# Altium footprint library EISI.PcbLib: 695 footprints (part 22 of 44)
Each footprint in its own frame and in the unit in brackets; x right, y up, seen from the top. Pads: shape width x height; smd on the part's side, far side on the other; paste and mask are expansions set on the pad; w line width, h text height; cw(c..) or ccw(c..) is an arc to the next point about the centre after c.
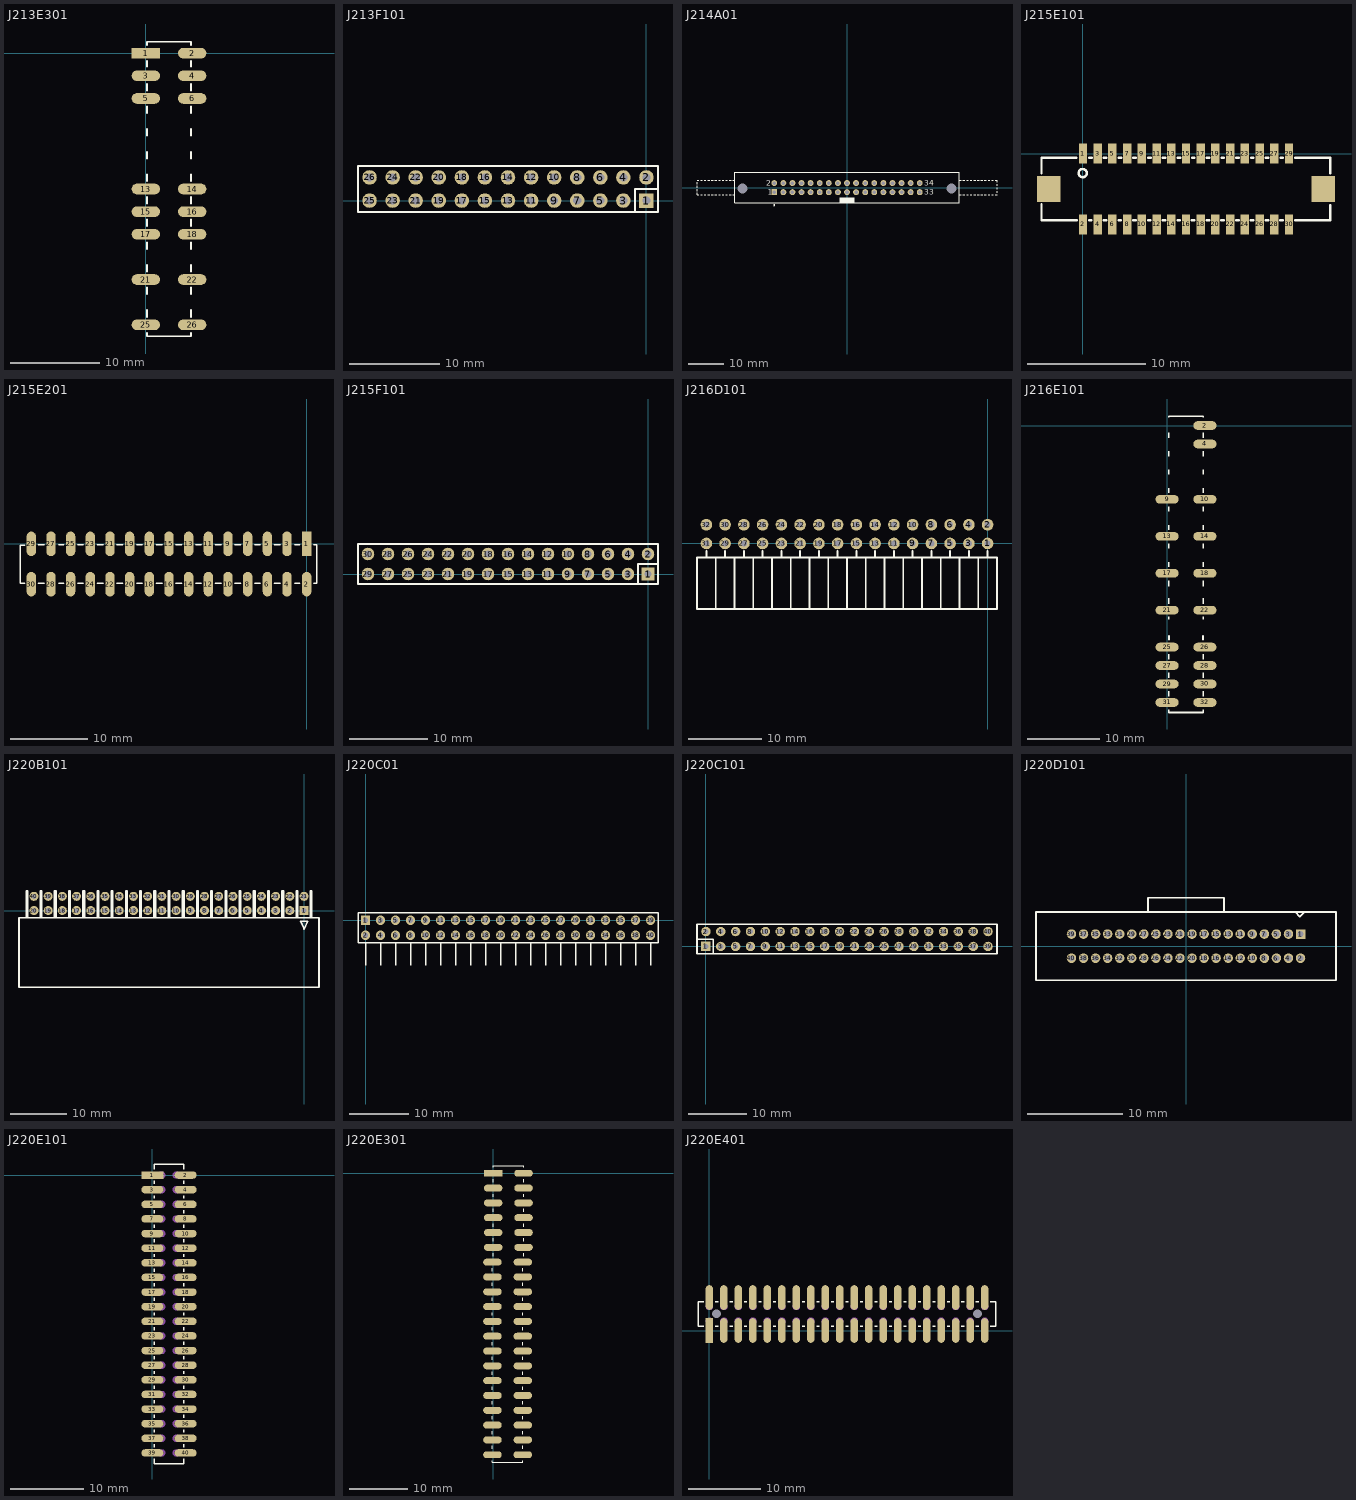
[diagram p21: the footprints below, top view; thin cyan lines are the x and y axes]

## J213E301 [mil]
pads (16):
  rect 125x47 smd: 1(0,0)
  oval 125x47 smd: 2(205,0) 3(0,-100) 4(205,-100) 5(0,-200) 6(205,-200) 13(0,-600) 14(205,-600) 15(0,-700) 16(205,-700) 17(0,-800) 18(205,-800) 21(0,-1000) 22(205,-1000) 25(0,-1200) 26(205,-1200)
TopOverlay:
  lines w7.87: 5,-1235 5,-1250 200,-1250 200,-1235 ; 5,-1165 5,-1135 ; 5,-1065 5,-1035 ; 5,-965 5,-935 ; 5,-865 5,-835 ; 5,-765 5,-735 ; 5,-665 5,-635 ; 5,-565 5,-535 ; 5,-465 5,-435 ; 5,-365 5,-335 ; 5,-265 5,-235 ; 5,-165 5,-135 ; 5,-60 5,-35 ; 5,35 5,50 200,50 200,35 ; 200,-1165 200,-1135 ; 200,-1065 200,-1035 ; 200,-965 200,-935 ; 200,-865 200,-835 ; 200,-765 200,-735 ; 200,-665 200,-635 ; 200,-565 200,-535 ; 200,-465 200,-435 ; 200,-365 200,-335 ; 200,-265 200,-235 ; 200,-165 200,-135 ; 200,-60 200,-35

## J213F101 [mm]
pads (26):
  rect 1.6x1.6 hole 0.9: 1(0,0)
  round 1.6 hole 0.9: 2(0,2.54) 3(-2.54,0) 4(-2.54,2.54) 5(-5.08,0) 6(-5.08,2.54) 7(-7.62,0) 8(-7.62,2.54) 9(-10.16,0) 10(-10.16,2.54) 11(-12.7,0) 12(-12.7,2.54) 13(-15.24,0) 14(-15.24,2.54) 15(-17.78,0) 16(-17.78,2.54) 17(-20.32,0) 18(-20.32,2.54) 19(-22.86,0) 20(-22.86,2.54) 21(-25.4,0) 22(-25.4,2.54) 23(-27.94,0) 24(-27.94,2.54) 25(-30.48,0) 26(-30.48,2.54)
TopOverlay:
  lines w0.254: -1.27,-1.27 -1.27,1.27 1.27,1.27 ; -31.75,-1.27 -31.75,3.81 1.27,3.81 1.27,-1.27 -31.75,-1.27

## J214A01 [mm] "Connector header 2x17 Vertical Pitch Body 62.80 x 8.5 x 25.75 mm (LxWxH), Locking levers"
height 25.75
pads (36):
  rect 1.65x1.65 hole 1: 1(-20.32,-1.27)
  round 1.65 hole 1: 2(-20.32,1.27) 3(-17.78,-1.27) 4(-17.78,1.27) 5(-15.24,-1.27) 6(-15.24,1.27) 7(-12.7,-1.27) 8(-12.7,1.27) 9(-10.16,-1.27) 10(-10.16,1.27) 11(-7.62,-1.27) 12(-7.62,1.27) 13(-5.08,-1.27) 14(-5.08,1.27) 15(-2.54,-1.27) 16(-2.54,1.27) 17(0,-1.27) 18(0,1.27) 19(2.54,-1.27) 20(2.54,1.27) 21(5.08,-1.27) 22(5.08,1.27) 23(7.62,-1.27) 24(7.62,1.27) 25(10.16,-1.27) 26(10.16,1.27) 27(12.7,-1.27) 28(12.7,1.27) 29(15.24,-1.27) 30(15.24,1.27) 31(17.78,-1.27) 32(17.78,1.27) 33(20.32,-1.27) 34(20.32,1.27)
  round 2.5 hole 2.8 unplated: MH1(-29.21,-0.25) MH2(29.21,-0.25)
TopOverlay:
  circle w0.25: c-20.32,-4.9 r0.125
  rectangle: -2.05,-4.25 2.05,-2.7
  lines w0.2: -41.9,-1 -41.9,-0.5 ; -41.9,0 -41.9,0.5 ; -41.9,1 -41.9,1.5 ; -41.9,2 -41.39,2 ; -41.89,-1.5 -41.9,-2 -41.39,-2 ; -40.89,-2 -40.39,-2 ; -40.89,2 -40.39,2 ; -39.89,-2 -39.39,-2 ; -39.89,2 -39.39,2 ; -38.89,-2 -38.39,-2 ; -38.89,2 -38.39,2 ; -37.89,-2 -37.39,-2 ; -37.89,2 -37.39,2 ; -36.89,-2 -36.39,-2 ; -36.89,2 -36.39,2 ; -35.89,-2 -35.39,-2 ; -35.89,2 -35.39,2 ; -34.89,-2 -34.39,-2 ; -34.89,2 -34.39,2 ; -33.89,-2 -33.39,-2 ; -33.89,2 -33.39,2 ; -32.89,-2 -32.39,-2 ; -32.89,2 -32.39,2 ; -31.89,-2 -31.4,-2 ; -31.89,2 -31.4,2 ; 31.4,-2 31.9,-2 ; 31.4,2 31.9,2 ; 32.4,-2 32.9,-2 ; 32.4,2 32.9,2 ; 33.4,-2 33.9,-2 ; 33.4,2 33.9,2 ; 34.4,-2 34.9,-2 ; 34.4,2 34.9,2 ; 35.4,-2 35.9,-2 ; 35.4,2 35.9,2 ; 36.4,-2 36.9,-2 ; 36.4,2 36.9,2 ; 37.4,-2 37.9,-2 ; 37.4,2 37.9,2 ; 38.4,-2 38.9,-2 ; 38.4,2 38.9,2 ; 39.4,-2 39.9,-2 ; 39.4,2 39.9,2 ; 40.4,-2 40.9,-2 ; 40.4,2 40.9,2 ; 41.4,-2 41.9,-2 ; 41.4,2 41.9,2 41.9,1.5 ; 41.9,-1.5 41.9,-1 ; 41.9,-0.5 41.9,0 ; 41.9,0.5 41.9,1 ; -31.4,-4.25 -31.4,4.25 31.4,4.25 31.4,-4.25 -31.4,-4.25
  text "2" at -22.6,0.52 h1.5
  text "1" at -22.1,-2.02 h1.5
  text "34" at 21.6,0.52 h1.5
  text "33" at 21.6,-2.02 h1.5

## J215E101 [mil]
pads (32):
  rect 28x67 smd: 1(0,0) 2(0,-236.22) 3(49.21,0) 4(49.21,-236.22) 5(98.43,0) 6(98.43,-236.22) 7(147.64,0) 8(147.64,-236.22) 9(196.85,0) 10(196.85,-236.22) 11(246.06,0) 12(246.06,-236.22) 13(295.28,0) 14(295.28,-236.22) 15(344.49,0) 16(344.49,-236.22) 17(393.7,0) 18(393.7,-236.22) 19(442.91,0) 20(442.91,-236.22) 21(492.13,0) 22(492.13,-236.22) 23(541.34,0) 24(541.34,-236.22) 25(590.55,0) 26(590.55,-236.22) 27(639.76,0) 28(639.76,-236.22) 29(688.98,0) 30(688.98,-236.22)
  rect 78x86 smd: ""(-114.17,-118.11) ""(803.15,-118.11)
TopOverlay:
  circle w8: c-0.98,-64.96 r13.78
  lines w7.87: -138.78,-168.31 -138.78,-222.44 -20.67,-222.44 ; -138.78,-65.94 -138.78,-13.78 -22.64,-13.78 ; 20.67,-222.44 28.54,-222.44 ; 20.67,-13.78 29.53,-13.78 ; 68.9,-222.44 77.76,-222.44 ; 69.88,-13.78 77.76,-13.78 ; 119.09,-222.44 126.97,-222.44 ; 119.09,-13.78 127.95,-13.78 ; 167.32,-222.44 176.18,-222.44 ; 168.31,-13.78 176.18,-13.78 ; 217.52,-222.44 225.39,-222.44 ; 217.52,-13.78 226.38,-13.78 ; 265.75,-222.44 274.61,-222.44 ; 266.73,-13.78 274.61,-13.78 ; 315.94,-222.44 323.82,-222.44 ; 315.94,-13.78 324.8,-13.78 ; 364.17,-222.44 373.03,-222.44 ; 365.16,-13.78 373.03,-13.78 ; 414.37,-222.44 422.24,-222.44 ; 414.37,-13.78 423.23,-13.78 ; 462.6,-222.44 471.46,-222.44 ; 463.58,-13.78 471.46,-13.78 ; 512.8,-222.44 520.67,-222.44 ; 512.8,-13.78 521.65,-13.78 ; 561.02,-222.44 569.88,-222.44 ; 562.01,-13.78 569.88,-13.78 ; 611.22,-222.44 619.09,-222.44 ; 611.22,-13.78 620.08,-13.78 ; 659.45,-222.44 668.31,-222.44 ; 660.43,-13.78 668.31,-13.78 ; 709.65,-222.44 826.77,-222.44 826.77,-172.24 ; 709.65,-13.78 826.77,-13.78 826.77,-65.94

## J215E201 [mil] "Connecteur 2x15 SMD pas 2.54mm"
pads (30):
  rect 47x125 smd: 1(0,0)
  oval 47x125 smd: 2(0,-205) 3(-100,0) 4(-100,-205) 5(-200,0) 6(-200,-205) 7(-300,0) 8(-300,-205) 9(-400,0) 10(-400,-205) 11(-500,0) 12(-500,-205) 13(-600,0) 14(-600,-205) 15(-700,0) 16(-700,-205) 17(-800,0) 18(-800,-205) 19(-900,0) 20(-900,-205) 21(-1000,0) 22(-1000,-205) 23(-1100,0) 24(-1100,-205) 25(-1200,0) 26(-1200,-205) 27(-1300,0) 28(-1300,-205) 29(-1400,0) 30(-1400,-205)
TopOverlay:
  lines w7.87: -1433.07,-200.79 -1456.69,-200.79 -1456.69,-7.87 -1433.07,-7.87 ; -1365,-200 -1335,-200 ; -1365,-5 -1335,-5 ; -1260,-200 -1235,-200 ; -1260,-5 -1235,-5 ; -1165,-200 -1135,-200 ; -1165,-5 -1135,-5 ; -1065,-200 -1035,-200 ; -1065,-5 -1035,-5 ; -965,-200 -935,-200 ; -965,-5 -935,-5 ; -865,-200 -835,-200 ; -865,-5 -835,-5 ; -765,-200 -735,-200 ; -765,-5 -735,-5 ; -665,-200 -635,-200 ; -665,-5 -635,-5 ; -565,-200 -535,-200 ; -565,-5 -535,-5 ; -465,-200 -435,-200 ; -465,-5 -435,-5 ; -365,-200 -335,-200 ; -365,-5 -335,-5 ; -265,-200 -235,-200 ; -265,-5 -235,-5 ; -165,-200 -135,-200 ; -165,-5 -135,-5 ; -60,-200 -35,-200 ; -60,-5 -35,-5 ; 35,-200 50,-200 50,-5 35,-5

## J215F101 [mm]
pads (30):
  rect 1.6x1.6 hole 0.9: 1(0,0)
  round 1.6 hole 0.9: 2(0,2.54) 3(-2.54,0) 4(-2.54,2.54) 5(-5.08,0) 6(-5.08,2.54) 7(-7.62,0) 8(-7.62,2.54) 9(-10.16,0) 10(-10.16,2.54) 11(-12.7,0) 12(-12.7,2.54) 13(-15.24,0) 14(-15.24,2.54) 15(-17.78,0) 16(-17.78,2.54) 17(-20.32,0) 18(-20.32,2.54) 19(-22.86,0) 20(-22.86,2.54) 21(-25.4,0) 22(-25.4,2.54) 23(-27.94,0) 24(-27.94,2.54) 25(-30.48,0) 26(-30.48,2.54) 27(-33.02,0) 28(-33.02,2.54) 29(-35.56,0) 30(-35.56,2.54)
TopOverlay:
  lines w0.254: -1.27,-1.27 -1.27,1.27 1.27,1.27 ; -36.83,-1.27 1.27,-1.27 1.27,3.81 -36.83,3.81 -36.83,-1.27

## J216D101 [mil]
pads (32):
  round 62 hole 32: 1(0,0) 2(0,100) 3(-100,0) 4(-100,100) 5(-200,0) 6(-200,100) 7(-300,0) 8(-300,100) 9(-400,0) 10(-400,100) 11(-500,0) 12(-500,100) 13(-600,0) 14(-600,100) 15(-700,0) 16(-700,100) 17(-800,0) 18(-800,100) 19(-900,0) 20(-900,100) 21(-1000,0) 22(-1000,100) 23(-1100,0) 24(-1100,100) 25(-1200,0) 26(-1200,100) 27(-1300,0) 28(-1300,100) 29(-1400,0) 30(-1400,100) 31(-1500,0) 32(-1500,100)
TopOverlay:
  lines w10: -1500,-75 -1500,-40 ; -1400,-75 -1400,-40 ; -1300,-75 -1300,-40 ; -1200,-75 -1200,-40 ; -1100,-75 -1100,-40 ; -1000,-75 -1000,-40 ; -900,-75 -900,-40 ; -800,-75 -800,-40 ; -700,-75 -700,-40 ; -600,-75 -600,-40 ; -545,-75 -1550,-75 ; -500,-75 -500,-40 ; -400,-75 -400,-40 ; -300,-75 -300,-40 ; -200,-75 -200,-40 ; -150,-350 -150,-75 ; -100,-75 -100,-40 ; -50,-350 -50,-75 ; 0,-75 0,-40 ; -1550,-350 -1550,-75 ; -1550,-350 -1550,-75 ; -1550,-350 -550,-350 ; -550,-350 -550,-75 ; -550,-350 -250,-350 ; -550,-350 -550,-75 ; -550,-75 -250,-75 ; -250,-350 50,-350 50,-75 -250,-75 ; -250,-350 -250,-75 ; -250,-350 -250,-75 ; -1450,-350 -1450,-75 -1450,-350 ; -1350,-350 -1350,-75 -1350,-350 ; -1250,-350 -1250,-75 -1250,-350 ; -1150,-350 -1150,-75 -1150,-350 ; -1050,-350 -1050,-75 -1050,-350 ; -950,-350 -950,-75 -950,-350 ; -850,-350 -850,-75 -850,-350 ; -750,-350 -750,-75 -750,-350 ; -650,-350 -650,-75 -650,-350 ; -450,-350 -450,-75 -450,-350 ; -350,-350 -350,-75 -350,-350

## J216E101 [mil]
pads (18):
  oval 125x47 smd: 2(205,0) 4(205,-100) 9(0,-400) 10(205,-400) 13(0,-600) 14(205,-600) 17(0,-800) 18(205,-800) 21(0,-1000) 22(205,-1000) 25(0,-1200) 26(205,-1200) 27(0,-1300) 28(205,-1300) 29(0,-1400) 30(205,-1400) 31(0,-1500) 32(205,-1500)
TopOverlay:
  lines w7.87: 10,-1555 10,-1540 ; 10,-1465 10,-1440 ; 10,-1365 10,-1340 ; 10,-1265 10,-1240 ; 10,-1050 10,-1035 ; 10,-965 10,-935 ; 10,-870 10,-840 ; 10,-765 10,-740 ; 10,-665 10,-640 ; 10,-565 10,-540 ; 10,-365 10,-340 ; 10,-265 10,-240 ; 10,-65 10,-40 ; 10,45 10,50 195,50 195,45 ; 195,-1555 195,-1540 ; 195,-1465 195,-1440 ; 195,-1365 195,-1340 ; 195,-1265 195,-1240 ; 195,-1050 195,-1035 ; 195,-965 195,-935 ; 195,-870 195,-840 ; 195,-765 195,-740 ; 195,-665 195,-640 ; 195,-565 195,-540 ; 195,-365 195,-340 ; 195,-265 195,-240 ; 195,-65 195,-40 ; 10,-465 10,-440 10,-465 ; 10,-165 10,-140 10,-165 ; 195,-465 195,-440 195,-465 ; 195,-165 195,-140 195,-165
  lines w10: 10,-1555 195,-1555 ; 10,-1160 10,-1140 ; 195,-1160 195,-1140

## J217A01 [mm] "Connecteur header cable plat droit 2x17 avec clip"

## J220B101 [mm]
pads (40):
  rect 1.6x1.6 hole 0.9: 1(0,0)
  round 1.6 hole 0.9: 2(-2.54,0) 3(-5.08,0) 4(-7.62,0) 5(-10.16,0) 6(-12.7,0) 7(-15.24,0) 8(-17.78,0) 9(-20.32,0) 10(-22.86,0) 11(-25.4,0) 12(-27.94,0) 13(-30.48,0) 14(-33.02,0) 15(-35.56,0) 16(-38.1,0) 17(-40.64,0) 18(-43.18,0) 19(-45.72,0) 20(-48.26,0) 21(0,2.54) 22(-2.54,2.54) 23(-5.08,2.54) 24(-7.62,2.54) 25(-10.16,2.54) 26(-12.7,2.54) 27(-15.24,2.54) 28(-17.78,2.54) 29(-20.32,2.54) 30(-22.86,2.54) 31(-25.4,2.54) 32(-27.94,2.54) 33(-30.48,2.54) 34(-33.02,2.54) 35(-35.56,2.54) 36(-38.1,2.54) 37(-40.64,2.54) 38(-43.18,2.54) 39(-45.72,2.54) 40(-48.26,2.54)
TopOverlay:
  lines w0.305: -49.657,-1.27 -49.657,3.556 -49.403,3.556 -49.403,-1.27 ; -47.117,-1.27 -47.117,3.556 -46.863,3.556 -46.863,-1.27 ; -44.577,-1.27 -44.577,3.556 -44.323,3.556 -44.323,-1.27 ; -42.037,-1.27 -42.037,3.556 -41.783,3.556 -41.783,-1.27 ; -39.497,-1.27 -39.497,3.556 -39.243,3.556 -39.243,-1.27 ; -36.957,-1.27 -36.957,3.556 -36.703,3.556 -36.703,-1.27 ; -34.417,-1.27 -34.417,3.556 -34.163,3.556 -34.163,-1.27 ; -31.877,-1.27 -31.877,3.556 -31.623,3.556 -31.623,-1.27 ; -29.337,-1.27 -29.337,3.556 -29.083,3.556 -29.083,-1.27 ; -26.797,-1.27 -26.797,3.556 -26.543,3.556 -26.543,-1.27 ; -24.257,-1.27 -24.257,3.556 -24.003,3.556 -24.003,-1.27 ; -21.717,-1.27 -21.717,3.556 -21.463,3.556 -21.463,-1.27 ; -19.177,-1.27 -19.177,3.556 -18.923,3.556 -18.923,-1.27 ; -16.637,-1.27 -16.637,3.556 -16.383,3.556 -16.383,-1.27 ; -14.097,-1.27 -14.097,3.556 -13.843,3.556 -13.843,-1.27 ; -11.557,-1.27 -11.557,3.556 -11.303,3.556 -11.303,-1.27 ; -9.017,-1.27 -9.017,3.556 -8.763,3.556 -8.763,-1.27 ; -6.477,-1.27 -6.477,3.556 -6.223,3.556 -6.223,-1.27 ; -3.937,-1.27 -3.937,3.556 -3.683,3.556 -3.683,-1.27 ; -1.397,-1.27 -1.397,3.556 -1.143,3.556 -1.143,-1.27 ; 1.143,-1.27 1.143,3.556 1.397,3.556 1.397,-1.27 ; -50.927,-13.716 -50.927,-1.27 2.667,-1.27 2.667,-13.716 -50.927,-13.716 ; -0.635,-1.905 0.635,-1.905 0,-3.302 -0.635,-1.905

## J220C01 [mm] "Connecteur barttte 2x20 coudé"
pads (40):
  rect 1.6x1.6 hole 0.9: 1(0,0)
  round 1.6 hole 0.9: 2(0,-2.54) 3(2.54,0) 4(2.54,-2.54) 5(5.08,0) 6(5.08,-2.54) 7(7.62,0) 8(7.62,-2.54) 9(10.16,0) 10(10.16,-2.54) 11(12.7,0) 12(12.7,-2.54) 13(15.24,0) 14(15.24,-2.54) 15(17.78,0) 16(17.78,-2.54) 17(20.32,0) 18(20.32,-2.54) 19(22.86,0) 20(22.86,-2.54) 21(25.4,0) 22(25.4,-2.54) 23(27.94,0) 24(27.94,-2.54) 25(30.48,0) 26(30.48,-2.54) 27(33.02,0) 28(33.02,-2.54) 29(35.56,0) 30(35.56,-2.54) 31(38.1,0) 32(38.1,-2.54) 33(40.64,0) 34(40.64,-2.54) 35(43.18,0) 36(43.18,-2.54) 37(45.72,0) 38(45.72,-2.54) 39(48.26,0) 40(48.26,-2.54)
TopOverlay:
  lines w0.25: 0,-7.62 0,-3.81 ; 2.54,-7.62 2.54,-3.81 ; 5.08,-7.62 5.08,-3.81 ; 7.62,-7.62 7.62,-3.81 ; 10.16,-7.62 10.16,-3.81 ; 12.7,-7.62 12.7,-3.81 ; 15.24,-7.62 15.24,-3.81 ; 17.78,-7.62 17.78,-3.81 ; 20.32,-7.62 20.32,-3.81 ; 22.86,-7.62 22.86,-3.81 ; 25.4,-7.62 25.4,-3.81 ; 27.94,-7.62 27.94,-3.81 ; 30.48,-7.62 30.48,-3.81 ; 33.02,-7.62 33.02,-3.81 ; 35.56,-7.62 35.56,-3.81 ; 38.1,-7.62 38.1,-3.81 ; 40.64,-7.62 40.64,-3.81 ; 43.18,-7.62 43.18,-3.81 ; 45.72,-7.62 45.72,-3.81 ; 48.26,-7.62 48.26,-3.81 ; -1.27,-3.81 49.53,-3.81 49.53,1.27 -1.27,1.27 -1.27,-3.81

## J220C101 [mm]
pads (40):
  rect 1.6x1.6 hole 0.9: 1(0,0)
  round 1.6 hole 0.9: 2(0,2.54) 3(2.54,0) 4(2.54,2.54) 5(5.08,0) 6(5.08,2.54) 7(7.62,0) 8(7.62,2.54) 9(10.16,0) 10(10.16,2.54) 11(12.7,0) 12(12.7,2.54) 13(15.24,0) 14(15.24,2.54) 15(17.78,0) 16(17.78,2.54) 17(20.32,0) 18(20.32,2.54) 19(22.86,0) 20(22.86,2.54) 21(25.4,0) 22(25.4,2.54) 23(27.94,0) 24(27.94,2.54) 25(30.48,0) 26(30.48,2.54) 27(33.02,0) 28(33.02,2.54) 29(35.56,0) 30(35.56,2.54) 31(38.1,0) 32(38.1,2.54) 33(40.64,0) 34(40.64,2.54) 35(43.18,0) 36(43.18,2.54) 37(45.72,0) 38(45.72,2.54) 39(48.26,0) 40(48.26,2.54)
TopOverlay:
  lines w0.254: -1.524,1.27 1.27,1.27 1.27,-1.27
  lines w0.305: -1.524,-1.27 -1.524,3.81 49.784,3.81 49.784,-1.27 -1.524,-1.27

## J220D101 [mm] "Con header cable plat 1.27mm droit"
height 9.9
pads (40):
  rect 1x1 hole 0.6: 1(12.065,1.27)
  round 1 hole 0.6: 2(12.065,-1.27) 3(10.795,1.27) 4(10.795,-1.27) 5(9.525,1.27) 6(9.525,-1.27) 7(8.255,1.27) 8(8.255,-1.27) 9(6.985,1.27) 10(6.985,-1.27) 11(5.715,1.27) 12(5.715,-1.27) 13(4.445,1.27) 14(4.445,-1.27) 15(3.175,1.27) 16(3.175,-1.27) 17(1.905,1.27) 18(1.905,-1.27) 19(0.635,1.27) 20(0.635,-1.27) 21(-0.635,1.27) 22(-0.635,-1.27) 23(-1.905,1.27) 24(-1.905,-1.27) 25(-3.175,1.27) 26(-3.175,-1.27) 27(-4.445,1.27) 28(-4.445,-1.27) 29(-5.715,1.27) 30(-5.715,-1.27) 31(-6.985,1.27) 32(-6.985,-1.27) 33(-8.255,1.27) 34(-8.255,-1.27) 35(-9.525,1.27) 36(-9.525,-1.27) 37(-10.795,1.27) 38(-10.795,-1.27) 39(-12.065,1.27) 40(-12.065,-1.27)
TopOverlay:
  lines w0.2: 12.5,3.6 12,3.1 11.5,3.6 ; -4,3.6 4,3.6 ; -4,3.6 -4,5.1 4,5.1 4,3.6 ; -4,3.6 -15.8,3.6 -15.8,-3.6 15.8,-3.6 15.8,3.6 4,3.6 ; 11.5,3.6 11.5,3.6

## J220E101 [mm]
pads (40):
  rect 3.02x1.02 smd: 1(0,0)
  oval 3.02x1.02 smd: 2(4.55,0) 3(0,-2) 4(4.55,-2) 5(0,-4) 6(4.55,-4) 7(0,-6) 8(4.55,-6) 9(0,-8) 10(4.55,-8) 11(0,-10) 12(4.55,-10) 13(0,-12) 14(4.55,-12) 15(0,-14) 16(4.55,-14) 17(0,-16) 18(4.55,-16) 19(0,-18) 20(4.55,-18) 21(0,-20) 22(4.55,-20) 23(0,-22) 24(4.55,-22) 25(0,-24) 26(4.55,-24) 27(0,-26) 28(4.55,-26) 29(0,-28) 30(4.55,-28) 31(0,-30) 32(4.55,-30) 33(0,-32) 34(4.55,-32) 35(0,-34) 36(4.55,-34) 37(0,-36) 38(4.55,-36) 39(0,-38) 40(4.55,-38)
TopOverlay:
  lines w0.2: 0.275,-38.8 0.275,-39.5 4.275,-39.5 4.275,-38.8 ; 0.275,-37.2 0.275,-36.8 ; 0.275,-33.2 0.275,-32.8 ; 0.275,-31.2 0.275,-30.8 ; 0.275,-29.2 0.275,-28.8 ; 0.275,-27.2 0.275,-26.8 ; 0.275,-25.2 0.275,-24.8 ; 0.275,-21.2 0.275,-20.8 ; 0.275,-19.2 0.275,-18.8 ; 0.275,-17.2 0.275,-16.8 ; 0.275,-13.2 0.275,-12.8 ; 0.275,-11.2 0.275,-10.8 ; 0.275,-9.2 0.275,-8.8 ; 0.275,-7.2 0.275,-6.8 ; 0.275,-5.2 0.275,-4.8 ; 0.275,-3.2 0.275,-2.8 ; 0.275,-1.2 0.275,-0.8 ; 0.275,0.8 0.275,1.5 4.275,1.5 4.275,0.8 ; 0.279,-35.189 0.279,-34.808 ; 0.279,-23.216 0.279,-22.809 ; 0.279,-15.189 0.279,-14.808 ; 4.267,-35.189 4.275,-34.8 ; 4.267,-23.216 4.267,-22.809 ; 4.267,-15.189 4.275,-14.8 ; 4.275,-37.2 4.275,-36.8 ; 4.275,-33.2 4.275,-32.8 ; 4.275,-31.2 4.275,-30.8 ; 4.275,-29.2 4.275,-28.8 ; 4.275,-27.2 4.275,-26.8 ; 4.275,-25.2 4.275,-24.8 ; 4.275,-21.2 4.275,-20.8 ; 4.275,-19.2 4.275,-18.8 ; 4.275,-17.2 4.275,-16.8 ; 4.275,-13.2 4.275,-12.8 ; 4.275,-11.2 4.275,-10.8 ; 4.275,-9.2 4.275,-8.8 ; 4.275,-7.2 4.275,-6.8 ; 4.275,-5.2 4.275,-4.8 ; 4.275,-3.2 4.275,-2.8 ; 4.275,-1.2 4.275,-0.8
Mechanical4:
  circle w0.2: c1.275,0 r0.4
  circle w0.2: c1.275,-2 r0.4
  circle w0.2: c3.275,-2 r0.4
  circle w0.2: c1.275,-4 r0.4
  circle w0.2: c3.275,-4 r0.4
  circle w0.2: c3.275,-6 r0.4
  circle w0.2: c1.275,-6 r0.4
  circle w0.2: c1.275,-8 r0.4
  circle w0.2: c3.275,-8 r0.4
  circle w0.2: c3.275,-10 r0.4
  circle w0.2: c1.275,-10 r0.4
  circle w0.2: c3.275,-12 r0.4
  circle w0.2: c1.275,-12 r0.4
  circle w0.2: c1.275,-14 r0.4
  circle w0.2: c3.275,-14 r0.4
  circle w0.2: c3.275,0 r0.4
  circle w0.2: c3.275,-16 r0.4
  circle w0.2: c1.275,-16 r0.4
  circle w0.2: c1.275,-18 r0.4
  circle w0.2: c3.275,-18 r0.4
  circle w0.2: c3.275,-20 r0.4
  circle w0.2: c1.275,-20 r0.4
  circle w0.2: c1.275,-22 r0.4
  circle w0.2: c3.275,-22 r0.4
  circle w0.2: c1.275,-24 r0.4
  circle w0.2: c3.275,-24 r0.4
  circle w0.2: c3.275,-26 r0.4
  circle w0.2: c1.275,-26 r0.4
  circle w0.2: c1.275,-28 r0.4
  circle w0.2: c3.275,-28 r0.4
  circle w0.2: c3.275,-30 r0.4
  circle w0.2: c1.275,-30 r0.4
  circle w0.2: c3.275,-32 r0.4
  circle w0.2: c1.275,-32 r0.4
  circle w0.2: c1.275,-34 r0.4
  circle w0.2: c3.275,-34 r0.4
  circle w0.2: c3.275,-36 r0.4
  circle w0.2: c1.275,-36 r0.4
  circle w0.2: c1.275,-38 r0.4
  circle w0.2: c3.275,-38 r0.4

## J220E301 [mil]
pads (40):
  rect 125x47.01 smd: 1(0,0)
  oval 125x47 smd: 2(205,0) 4(205,-100) 5(0,-200) 6(205,-200) 7(0,-300) 8(205,-300) 9(0,-400) 10(205,-400) 11(0,-500) 12(205,-500) 13(-5,-600) 14(200,-600) 15(-5,-700) 16(200,-700) 17(-5,-800) 18(200,-800) 19(-5,-900) 20(200,-900) 21(-5,-1000) 22(200,-1000) 23(-5,-1100) 24(200,-1100) 25(-5,-1200) 26(200,-1200) 27(-5,-1300) 28(200,-1300) 29(-5,-1400) 30(200,-1400) 31(-5,-1500) 32(200,-1500) 33(-5,-1600) 34(200,-1600) 35(-5,-1700) 36(200,-1700) 37(-5,-1800) 38(200,-1800) 39(-5,-1900) 40(200,-1900)
  oval 125x47.01 smd: 3(0,-100)
TopOverlay:
  lines w7.87: -5,-1940 -5,-1950 200,-1950 200,-1940 ; -5,-1860 -5,-1840 ; -5,-1760 -5,-1740 ; -5,-1660 -5,-1640 ; -5,-1560 -5,-1540 ; -5,-1460 -5,-1440 ; -5,-1360 -5,-1340 ; -5,-1260 -5,-1240 ; -5,-1160 -5,-1140 ; -5,-1060 -5,-1040 ; -5,-960 -5,-940 ; -5,-860 -5,-840 ; -5,-760 -5,-740 ; -5,-660 -5,-640 ; 0,-560 0,-540 ; 0,-460 0,-440 ; 0,-360 0,-340 ; 0,-260 0,-240 ; 0,-160 0,-140 ; 0,-60 0,-40 ; 0,40 0,50 205,50 205,40 ; 200,-1860 200,-1840 ; 200,-1760 200,-1740 ; 200,-1660 200,-1640 ; 200,-1560 200,-1540 ; 200,-1460 200,-1440 ; 200,-1360 200,-1340 ; 200,-1260 200,-1240 ; 200,-1160 200,-1140 ; 200,-1060 200,-1040 ; 200,-960 200,-940 ; 200,-860 200,-840 ; 200,-760 200,-740 ; 200,-660 200,-640 ; 205,-560 205,-540 ; 205,-460 205,-440 ; 205,-360 205,-340 ; 205,-260 205,-240 ; 205,-160 205,-140 ; 205,-60 205,-40

## J220E401 [mm]
pads (42):
  rect 1x3.4 smd: 1(0,0)
  oval 1x3.4 smd: 2(0,4.557) 3(2,0) 4(2,4.55) 5(4,0) 6(4,4.55) 7(6,0) 8(6,4.55) 9(8,0) 10(8,4.55) 11(10,0) 12(10,4.55) 13(12,0) 14(12,4.55) 15(14,0) 16(14,4.55) 17(16,0) 18(16,4.55) 19(18,0) 20(18,4.55) 21(20,0) 22(20,4.55) 23(22,0) 24(22,4.55) 25(24,0) 26(24,4.55) 27(26,0) 28(26,4.55) 29(28,0) 30(28,4.55) 31(30,0) 32(30,4.55) 33(32,0) 34(32,4.55) 35(34,0) 36(34,4.55) 37(36,0) 38(36,4.55) 39(38,0) 40(38,4.55)
  round 0.3 hole 1.2: ""(1,2.3) ""(37,2.3)
TopOverlay:
  lines w0.2: -0.8,0.6 -1.5,0.6 -1.5,3.95 -0.8,3.95 ; 0.8,0.6 1.2,0.6 ; 0.8,3.95 1.2,3.95 ; 2.8,0.6 3.2,0.6 ; 2.8,3.95 3.2,3.95 ; 4.8,0.6 5.2,0.6 ; 4.8,3.95 5.2,3.95 ; 6.8,0.6 7.2,0.6 ; 6.8,3.95 7.2,3.95 ; 8.8,0.6 9.2,0.6 ; 8.8,3.95 9.2,3.95 ; 10.8,0.6 11.201,0.61 ; 10.8,3.95 11.201,3.947 ; 12.8,0.6 13.2,0.6 ; 12.8,3.95 13.2,3.95 ; 15,0.6 14.8,0.6 15.2,0.6 ; 15,3.95 14.8,3.95 15.2,3.95 ; 16.8,0.6 17.2,0.6 ; 16.8,3.95 17.2,3.95 ; 18.8,0.6 19.2,0.6 ; 18.8,3.95 19.2,3.95 ; 20.8,0.6 21.2,0.6 ; 20.8,3.95 21.2,3.95 ; 22.8,0.6 23.2,0.6 ; 22.8,3.95 23.2,3.95 ; 24.8,0.6 25.201,0.61 ; 24.8,3.95 25.201,3.947 ; 26.8,0.6 27.2,0.6 ; 26.8,3.95 27.2,3.95 ; 28.8,0.6 29.2,0.6 ; 28.8,3.95 29.2,3.95 ; 30.8,0.6 31.2,0.6 ; 30.8,3.95 31.2,3.95 ; 32.8,0.6 33.2,0.6 ; 32.8,3.95 33.2,3.95 ; 34.8,0.6 35.2,0.6 ; 34.8,3.95 35.2,3.95 ; 36.8,0.6 37.2,0.6 ; 36.8,3.95 37.2,3.95 ; 38.8,0.6 39.5,0.6 39.5,3.95 38.8,3.95
Mechanical4:
  circle w0.2: c0,1.3 r0.4
  circle w0.2: c2,1.3 r0.4
  circle w0.2: c0,3.3 r0.4
  circle w0.2: c14,1.3 r0.4
  circle w0.2: c14,3.3 r0.4
  circle w0.2: c12,3.3 r0.4
  circle w0.2: c12,1.3 r0.4
  circle w0.2: c10,1.3 r0.4
  circle w0.2: c10,3.3 r0.4
  circle w0.2: c8,3.3 r0.4
  circle w0.2: c8,1.3 r0.4
  circle w0.2: c6,1.3 r0.4
  circle w0.2: c6,3.3 r0.4
  circle w0.2: c4,3.3 r0.4
  circle w0.2: c4,1.3 r0.4
  circle w0.2: c2,3.3 r0.4
  circle w0.2: c16,1.3 r0.4
  circle w0.2: c28,1.3 r0.4
  circle w0.2: c28,3.3 r0.4
  circle w0.2: c26,3.3 r0.4
  circle w0.2: c26,1.3 r0.4
  circle w0.2: c24,1.3 r0.4
  circle w0.2: c24,3.3 r0.4
  circle w0.2: c22,3.3 r0.4
  circle w0.2: c22,1.3 r0.4
  circle w0.2: c20,1.3 r0.4
  circle w0.2: c20,3.3 r0.4
  circle w0.2: c18,3.3 r0.4
  circle w0.2: c18,1.3 r0.4
  circle w0.2: c16,3.3 r0.4
  circle w0.2: c30,3.3 r0.4
  circle w0.2: c32,1.3 r0.4
  circle w0.2: c32,3.3 r0.4
  circle w0.2: c34,3.3 r0.4
  circle w0.2: c34,1.3 r0.4
  circle w0.2: c36,1.3 r0.4
  circle w0.2: c36,3.3 r0.4
  circle w0.2: c38,3.3 r0.4
  circle w0.2: c38,1.3 r0.4
  circle w0.2: c30,1.3 r0.4